# Altium footprint library SO16-SPE-74HCT4046AD.PcbLib: 1 footprints
Each footprint in its own frame and in the unit in brackets; x right, y up, seen from the top. Pads: shape width x height; smd on the part's side, far side on the other; paste and mask are expansions set on the pad; w line width, h text height; cw(c..) or ccw(c..) is an arc to the next point about the centre after c.
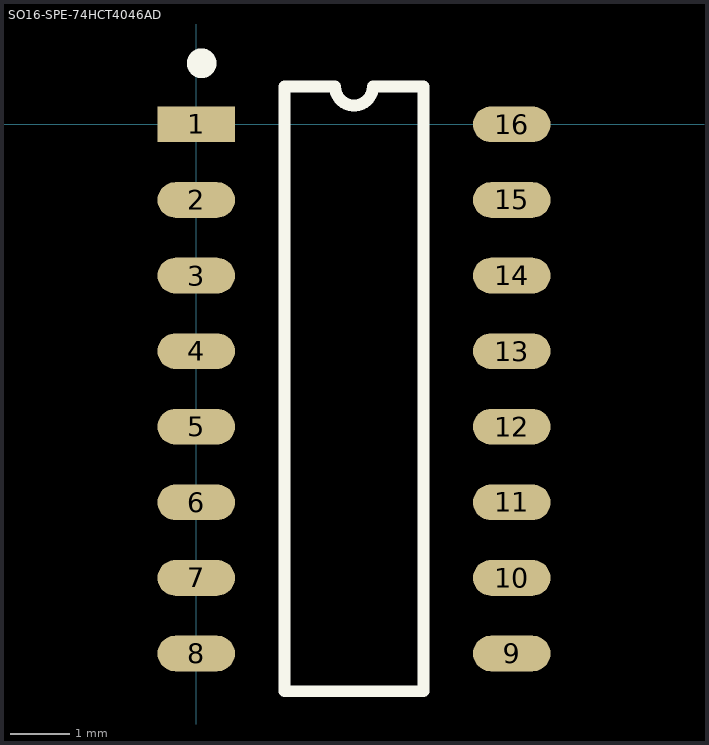
[diagram p0: the footprint, top view; thin cyan lines are the x and y axes]

## SO16-SPE-74HCT4046AD [mm] "SO16 SMT package"
pads (16):
  rect 1.3x0.6 smd: 1(0,0)
  oval 1.3x0.6 smd: 2(0,-1.27) 3(0,-2.54) 4(0,-3.81) 5(0,-5.08) 6(0,-6.35) 7(0,-7.62) 8(0,-8.89) 9(5.3,-8.89) 10(5.3,-7.62) 11(5.3,-6.35) 12(5.3,-5.08) 13(5.3,-3.81) 14(5.3,-2.54) 15(5.3,-1.27) 16(5.3,0)
Top Overlay:
  circle w0.25: c0.09,1.027 r0.125
  lines w0.2: 1.485,-9.525 3.815,-9.525 3.815,0.635 2.967,0.635 cw(c2.65,0.635) 2.332,0.635 1.485,0.635 1.485,-9.525
3D body: height 1.73, standoff -0.04, extent -0.422,-9.43 5.715,0.54